# Altium schematic symbol library Switch.SchLib: 1 symbol
Pins are listed as number, name and electrical type; pins without a type are passive.

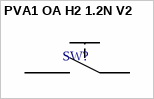
[diagram p0: symbol PVA1 OA H2 1.2N V2]

## PVA1 OA H2 1.2N V2
designator SW?  (value not drawn)
Switch
footprint PVA1 OA H2 1.2N V2 (SWITCH PUSH DPST-NO 0.1A 32V)
pins: 1, 2